# Altium schematic symbol library PDTZ143ZT.Schlib: 2 symbols
Pins are listed as number, name and electrical type; pins without a type are passive.

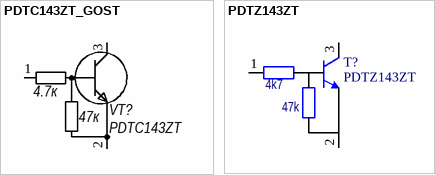
[diagram p0: symbols PDTC143ZT_GOST to PDTZ143ZT]

## PDTC143ZT_GOST
designator VT?, comment PDTC143ZT
наименование: PDTZ143ZT; назначение: транзистор; Datasheet: https://static.chipdip.ru/lib/583/DOC001583045.pdf
footprint SOT-23_v2
footprint SOT-23
pins: 1 0, 2, 3 1
text: 4.7к; 47к

## PDTZ143ZT
designator T?
Digital Transistor; назначение: транзистор; Потребление, Вт: 0,01; Datasheet: https://static.chipdip.ru/lib/583/DOC001583045.pdf; наименование: PDTZ143ZT
footprint SOT-23
pins: 1 B, 2 E, 3 C
text: 4k7; 47k